# Altium schematic symbol library 2309413-1.SchLib: 1 symbol
Pins are listed as number, name and electrical type; pins without a type are passive.

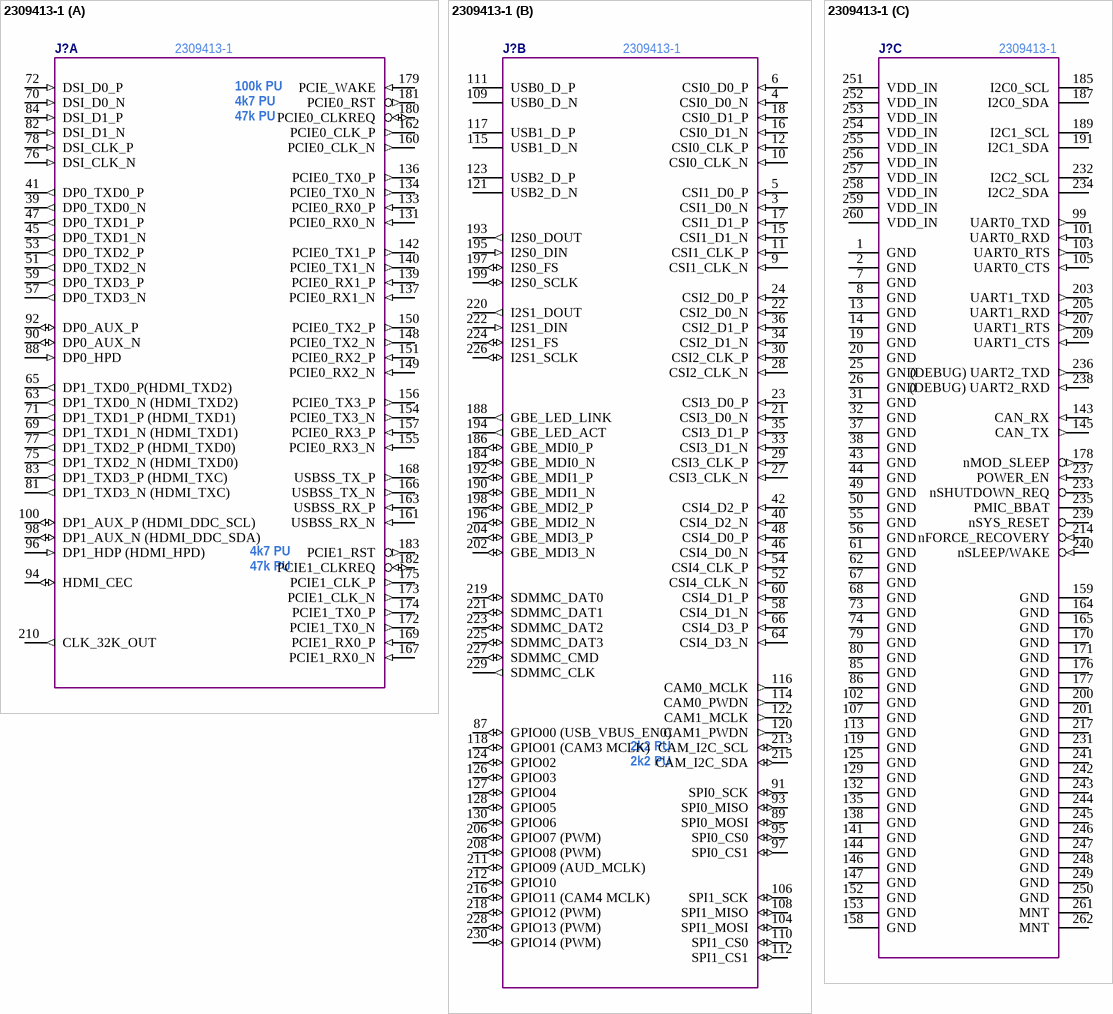
[diagram p0: symbol 2309413-1]

## 2309413-1
designator J?
Conn DDR4 DIMM Socket SKT 260 POS 0.5mm Solder RA SMD T/R; Manufacturer Part Number: 2309413-1
part A pins: 39 DP0_TXD0_N (out) "DIFF PAIR DM", 41 DP0_TXD0_P (out) "DIFF PAIR DP", 45 DP0_TXD1_N (out) "DIFF PAIR DM", 47 DP0_TXD1_P (out) "DIFF PAIR DP", 51 DP0_TXD2_N (out) "DIFF PAIR DM", 53 DP0_TXD2_P (out) "DIFF PAIR DP", 57 DP0_TXD3_N (out) "DIFF PAIR DM", 59 DP0_TXD3_P (out) "DIFF PAIR DP", 63 DP1_TXD0_N (HDMI_TXD2) (out) "DIFF PAIR DM", 65 DP1_TXD0_P(HDMI_TXD2) (out) "DIFF PAIR DP", 69 DP1_TXD1_N (HDMI_TXD1) (out) "DIFF PAIR DM", 70 DSI_D0_N (in) "DIFF PAIR DM", 71 DP1_TXD1_P (HDMI_TXD1) (out) "DIFF PAIR DP", 72 DSI_D0_P (in) "DIFF PAIR DP", 75 DP1_TXD2_N (HDMI_TXD0) (out) "DIFF PAIR DM", 76 DSI_CLK_N (in) "DIFF PAIR DM", 77 DP1_TXD2_P (HDMI_TXD0) (out) "DIFF PAIR DP", 78 DSI_CLK_P (in) "DIFF PAIR DP", 81 DP1_TXD3_N (HDMI_TXC) (out) "DIFF PAIR DM", 82 DSI_D1_N (in) "DIFF PAIR DM", 83 DP1_TXD3_P (HDMI_TXC) (out) "DIFF PAIR DP", 84 DSI_D1_P (in) "DIFF PAIR DP", 88 DP0_HPD (in) "1V8 CMOS", 90 DP0_AUX_N (io) "DIFF PAIR DM", 92 DP0_AUX_P (io) "DIFF PAIR DP", 94 HDMI_CEC (io) "1V8", 96 DP1_HDP (HDMI_HPD) (in) "1V8 CMOS", 98 DP1_AUX_N (HDMI_DDC_SDA) (io) "1V8 / 3V3 Tolerant", 100 DP1_AUX_P (HDMI_DDC_SCL) (io) "1V8 / 3V3 Tolerant", 131 PCIE0_RX0_N (in) "DIFF PAIR DM", 133 PCIE0_RX0_P (in) "DIFF PAIR DP", 134 PCIE0_TX0_N (out) "DIFF PAIR DM", 136 PCIE0_TX0_P (out) "DIFF PAIR DP", 137 PCIE0_RX1_N (in) "DIFF PAIR DM", 139 PCIE0_RX1_P (in) "DIFF PAIR DM", 140 PCIE0_TX1_N (out) "DIFF PAIR DM", 142 PCIE0_TX1_P (out) "DIFF PAIR DM", 148 PCIE0_TX2_N (out) "DIFF PAIR DM", 149 PCIE0_RX2_N (in) "DIFF PAIR DM", 150 PCIE0_TX2_P (out) "DIFF PAIR DP", 151 PCIE0_RX2_P (in) "DIFF PAIR DP", 154 PCIE0_TX3_N (out) "DIFF PAIR DM", 155 PCIE0_RX3_N (in) "DIFF PAIR DM", 156 PCIE0_TX3_P (out) "DIFF PAIR DP", 157 PCIE0_RX3_P (in) "DIFF PAIR DP", 160 PCIE0_CLK_N (out) "DIFF PAIR DM", 161 USBSS_RX_N (in) "DIFF PAIR DM", 162 PCIE0_CLK_P (out) "DIFF PAIR DP", 163 USBSS_RX_P (in) "DIFF PAIR DP", 166 USBSS_TX_N (out) "DIFF PAIR DM", 167 PCIE1_RX0_N (in) "DIFF PAIR DP", 168 USBSS_TX_P (out) "DIFF PAIR DP", 169 PCIE1_RX0_P (in) "DIFF PAIR DP", 172 PCIE1_TX0_N (out) "DIFF PAIR DP", 173 PCIE1_CLK_N (out) "DIFF PAIR DP", 174 PCIE1_TX0_P (out) "DIFF PAIR DP", 175 PCIE1_CLK_P (out) "DIFF PAIR DP", 179 PCIE_WAKE (in) "3V3 100k Pullup on module", 180 PCIE0_CLKREQ (io) "3V3 47k Pullup on module", 181 PCIE0_RST (out) "3V3 4k7 Pullup on module. Output when module is Root Port - input when module Endpoint.", 182 PCIE1_CLKREQ (io) "3V3 47k Pullup on module", 183 PCIE1_RST (out) "3V3 4k7 Pullup on module", 210 CLK_32K_OUT (out) "1V8 CMOS"
part B pins: 3 CSI1_D0_N (in) "DIFF PAIR DM", 4 CSI0_D0_N (in) "DIFF PAIR DM", 5 CSI1_D0_P (in) "DIFF PAIR DP", 6 CSI0_D0_P (in) "DIFF PAIR DP", 9 CSI1_CLK_N (in) "DIFF PAIR DM", 10 CSI0_CLK_N (in) "DIFF PAIR DM", 11 CSI1_CLK_P (in) "DIFF PAIR DP", 12 CSI0_CLK_P (in) "DIFF PAIR DP", 15 CSI1_D1_N (in) "DIFF PAIR DM", 16 CSI0_D1_N (in) "DIFF PAIR DM", 17 CSI1_D1_P (in) "DIFF PAIR DP", 18 CSI0_D1_P (in) "DIFF PAIR DP", 21 CSI3_D0_N (in) "DIFF PAIR DM", 22 CSI2_D0_N (in) "DIFF PAIR DM", 23 CSI3_D0_P (in) "DIFF PAIR DP", 24 CSI2_D0_P (in) "DIFF PAIR DP", 27 CSI3_CLK_N (in) "DIFF PAIR DM", 28 CSI2_CLK_N (in) "DIFF PAIR DM", 29 CSI3_CLK_P (in) "DIFF PAIR DP", 30 CSI2_CLK_P (in) "DIFF PAIR DP", 33 CSI3_D1_N (in) "DIFF PAIR DM", 34 CSI2_D1_N (in) "DIFF PAIR DM", 35 CSI3_D1_P (in) "DIFF PAIR DP", 36 CSI2_D1_P (in) "DIFF PAIR DP", 40 CSI4_D2_N (in) "DIFF PAIR DM", 42 CSI4_D2_P (in) "DIFF PAIR DP", 46 CSI4_D0_N (in) "DIFF PAIR DM", 48 CSI4_D0_P (in) "DIFF PAIR DP", 52 CSI4_CLK_N (in) "DIFF PAIR DM", 54 CSI4_CLK_P (in) "DIFF PAIR DP", 58 CSI4_D1_N (in) "DIFF PAIR DM", 60 CSI4_D1_P (in) "DIFF PAIR DP", 64 CSI4_D3_N (in) "DIFF PAIR DM", 66 CSI4_D3_P (in) "DIFF PAIR DP", 87 GPIO00 (USB_VBUS_EN0) (io) "1V8 CMOS", 89 SPI0_MOSI (io) "1V8 CMOS", 91 SPI0_SCK (io) "1V8 CMOS", 93 SPI0_MISO (io) "1V8 CMOS", 95 SPI0_CS0 (io) "1V8 CMOS", 97 SPI0_CS1 (io) "1V8 CMOS", 104 SPI1_MOSI (io) "1V8 CMOS", 106 SPI1_SCK (io) "1V8 CMOS", 108 SPI1_MISO (io) "1V8 CMOS", 109 USB0_D_N "DIFF PAIR DM", 110 SPI1_CS0 (io) "1V8 CMOS", 111 USB0_D_P "DIFF PAIR DP", 112 SPI1_CS1 (io) "1V8 CMOS", 114 CAM0_PWDN (out) "1V8 CMOS", 115 USB1_D_N "DIFF PAIR DM", 116 CAM0_MCLK (out) "1V8 CMOS", 117 USB1_D_P "DIFF PAIR DP", 118 GPIO01 (CAM3 MCLK) (io) "1V8 CMOS", 120 CAM1_PWDN (out) "1V8 CMOS", 121 USB2_D_N "DIFF PAIR DM", 122 CAM1_MCLK (out) "1V8 CMOS", 123 USB2_D_P "DIFF PAIR DP", 124 GPIO02 (io) "1V8 CMOS", 126 GPIO03 (io) "1V8 CMOS", 127 GPIO04 (io) "1V8 CMOS", 128 GPIO05 (io) "1V8 CMOS", 130 GPIO06 (io) "1V8 CMOS", 184 GBE_MDI0_N (io) "DIFF PAIR DM", 186 GBE_MDI0_P (io) "DIFF PAIR DP", 188 GBE_LED_LINK (out) "3V3", 190 GBE_MDI1_N (io) "DIFF PAIR DM", 192 GBE_MDI1_P (io) "DIFF PAIR DP", 193 I2S0_DOUT (out) "1V8 CMOS", 194 GBE_LED_ACT (out) "3V3", 195 I2S0_DIN (in) "1V8 CMOS", 196 GBE_MDI2_N (io) "DIFF PAIR DM", 197 I2S0_FS (io) "1V8 CMOS", 198 GBE_MDI2_P (io) "DIFF PAIR DP", 199 I2S0_SCLK (io) "1V8 CMOS", 202 GBE_MDI3_N (io) "DIFF PAIR DM", 204 GBE_MDI3_P (io) "DIFF PAIR DP", 206 GPIO07 (PWM) (io) "1V8 CMOS", 208 GPIO08 (PWM) (io) "1V8 CMOS", 211 GPIO09 (AUD_MCLK) (io) "1V8 CMOS", 212 GPIO10 (io) "1V8 CMOS", 213 CAM_I2C_SCL (io) "3V3 2k2 Pullup on module", 215 CAM_I2C_SDA (io) "3V3 2k2 Pullup on module", 216 GPIO11 (CAM4 MCLK) (io) "1V8 CMOS", 218 GPIO12 (PWM) (io) "1V8 CMOS", 219 SDMMC_DAT0 (io) "1V8 / 3V3 CMOS", 220 I2S1_DOUT (out) "1V8 CMOS", 221 SDMMC_DAT1 (io) "1V8 / 3V3 CMOS", 222 I2S1_DIN (in) "1V8 CMOS", 223 SDMMC_DAT2 (io) "1V8 / 3V3 CMOS", 224 I2S1_FS (io) "1V8 CMOS", 225 SDMMC_DAT3 (io) "1V8 / 3V3 CMOS", 226 I2S1_SCLK (io) "1V8 CMOS", 227 SDMMC_CMD (io) "1V8 / 3V3 CMOS", 228 GPIO13 (PWM) (io) "1V8 CMOS", 229 SDMMC_CLK (out) "1V8 / 3V3 CMOS", 230 GPIO14 (PWM) (io) "1V8 CMOS"
part C pins: 1 GND (power), 2 GND (power), 7 GND (power), 8 GND (power), 13 GND (power), 14 GND (power), 19 GND (power), 20 GND (power), 25 GND (power), 26 GND (power), 31 GND (power), 32 GND (power), 37 GND (power), 38 GND (power), 43 GND (power), 44 GND (power), 49 GND (power), 50 GND (power), 55 GND (power), 56 GND (power), 61 GND (power), 62 GND (power), 67 GND (power), 68 GND (power), 73 GND (power), 74 GND (power), 79 GND (power), 80 GND (power), 85 GND (power), 86 GND (power), 99 UART0_TXD (out) "1V8 MOS", 101 UART0_RXD (in) "1V8 CMOS", 102 GND (power), 103 UART0_RTS (out) "1V8 MOS", 105 UART0_CTS (in) "1V8 CMOS", 107 GND (power), 113 GND (power), 119 GND (power), 125 GND (power), 129 GND (power), 132 GND (power), 135 GND (power), 138 GND (power), 141 GND (power), 143 CAN_RX (in) "1V8 CMOS", 144 GND (power), 145 CAN_TX (out) "1V8 CMOS", 146 GND (power), 147 GND (power), 152 GND (power), 153 GND (power), 158 GND (power), 159 GND (power), 164 GND (power), 165 GND (power), 170 GND (power), 171 GND (power), 176 GND (power), 177 GND (power), 178 nMOD_SLEEP (out) "1V8 CMOS", 185 I2C0_SCL (oc) "3V3 2k2 Pullup on module", 187 I2C0_SDA (oc) "3V3 2k2 Pullup on module", 189 I2C1_SCL (oc) "3V3 2k2 Pullup on module", 191 I2C1_SDA (oc) "3V3 2k2 Pullup on module", 200 GND (power), 201 GND (power), 203 UART1_TXD (out) "1V8 MOS", 205 UART1_RXD (in) "1V8 CMOS", 207 UART1_RTS (out) "1V8 MOS", 209 UART1_CTS (in) "1V8 CMOS", 214 nFORCE_RECOVERY (in) "1V8 CMOS", 217 GND (power), 231 GND (power), 232 I2C2_SCL (oc) "1V8 2k2 Pullup on module", 233 nSHUTDOWN_REQ (oc) "5V0 CMOS", 234 I2C2_SDA (oc) "1V8 2k2 Pullup on module", 235 PMIC_BBAT (power) "1V65 - 5V5", 236 (DEBUG) UART2_TXD (out) "1V8 CMOS", 237 POWER_EN (in) "5V0 100K Pullup", 238 (DEBUG) UART2_RXD (in) "1V8 CMOS", 239 nSYS_RESET (oc) "1V8", 240 nSLEEP/WAKE (in) "5V0 CMOS", 241 GND (power), 242 GND (power), 243 GND (power), 244 GND (power), 245 GND (power), 246 GND (power), 247 GND (power), 248 GND (power), 249 GND (power), 250 GND (power), 251 VDD_IN (power) "5V0", 252 VDD_IN (power) "5V0", 253 VDD_IN (power) "5V0", 254 VDD_IN (power) "5V0", 255 VDD_IN (power) "5V0", 256 VDD_IN (power) "5V0", 257 VDD_IN (power) "5V0", 258 VDD_IN (power) "5V0", 259 VDD_IN (power) "5V0", 260 VDD_IN (power) "5V0", 261 MNT "GND", 262 MNT "GND"
part A text: 100k PU; 4k7 PU; 47k PU
part B text: 2k2 PU